# Altium schematic symbol library ToradexMainBoard-V0I1.SCHLIB: 303 symbols (part 13 of 14)
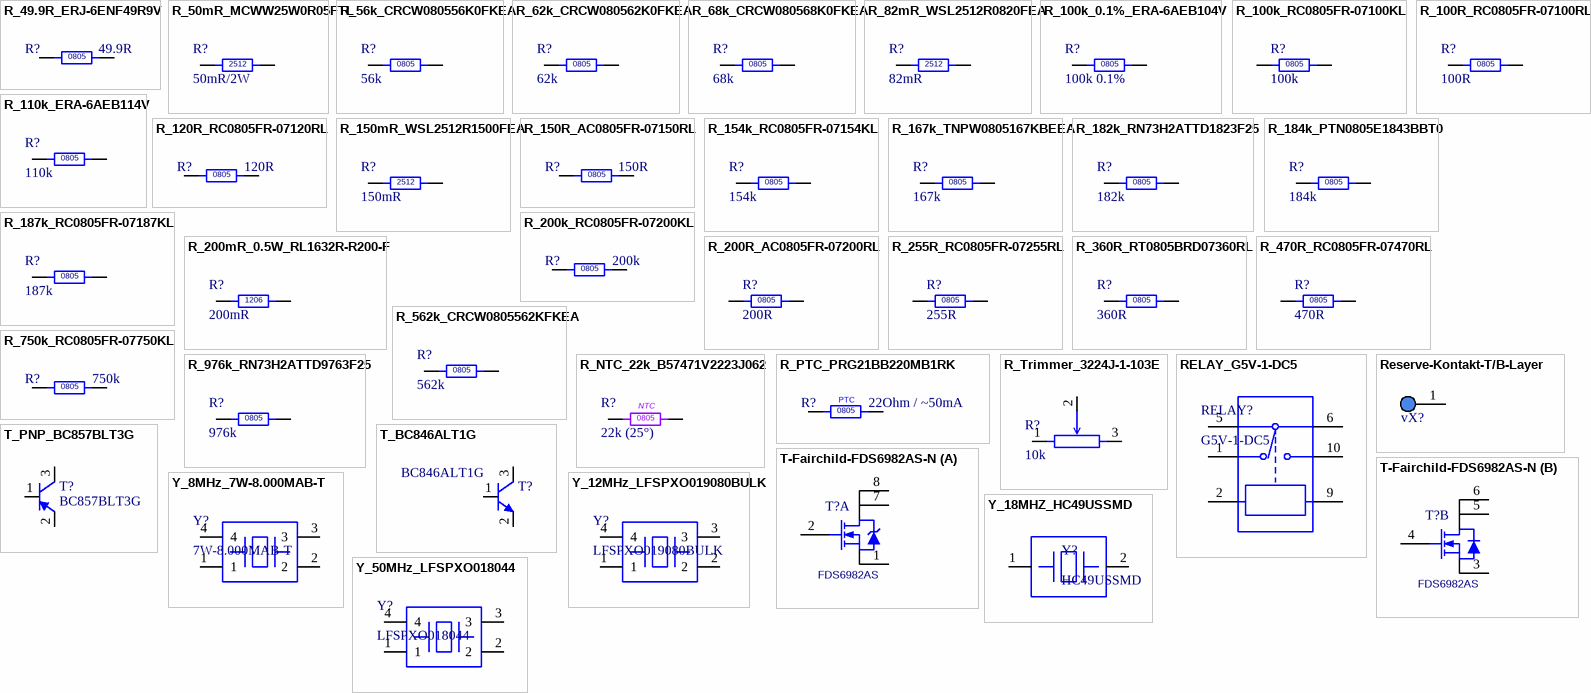
[diagram p27: symbols R_49.9R_ERJ-6ENF49R9V to Y_50MHz_LFSPXO018044]

## R_68k_CRCW080568K0FKEA
designator R?, comment 68k
VISHAY - CRCW080568K0FKEA - SMD Chip Resistor, 0805 [2012 Metric], 68 kohm, CRCW e3 Series, 150 V, Thick Film, 125 mW; Resistance: 68kR; Tolerance: 1%; Temperature Coefficient: 100ppm/°C; Power Rating: 125mW; Voltage Rating: 150V; Supplier 1: Farnell; Manufacturer: Vishay; Manufacturer Part Number: CRCW080568K0FKEA; RoHS: Yes; Category: Chip SMD Resistors; Stock 1: 12029; Pricing 1: 10=0,06040, 100=0,02760, 500=0,01940, 1000=0,01110, 2500=0,01050 (EUR); Case/Package: 0805; Number of Pins: 2; Case Code (Imperial): 0805; Case Code (Metric): 2012; Contact Plating: Tin; Weight: 0.000194oz; Size Code: 0805; Min Operating Temperature: -55°C; Max Operating Temperature: 155°C; Packaging: Tape and Reel; Resistor Type: Thick Film; Termination: SMD/SMT; Series: CRCW; Package Quantity: 10; Max Power Dissipation: 125mW; Number of Terminations: 2; Voltage Rating (DC): 150V; Features: Automotive AEC-Q200; Construction: Rectangular; Resistance Tolerance: 1%; Technology: THICK FILM; Length: 2mm; Width: 1.25mm; Height: 0.45mm; Depth: 1.25mm; Radiation Hardening: No; RoHS Compliant: Yes; Lead Free: Lead Free; Military Standard: Not; REACH SVHC: Unknown; ComponentLink1URL: https://datasheet.ciiva.com/11809/0900766b80d98b26-11809168.pdf?src-supplier=RSComponents; ComponentLink1Description: https://datasheet.ciiva.com/11809/0900766b80d98b26-11809168.pdf?src-supplier=RSComponents; ComponentLink2URL: https://datasheet.ciiva.com/2495/dcrcwe3-2495650.pdf?src-supplier=Digi-Key; ComponentLink2Description: https://datasheet.ciiva.com/2495/dcrcwe3-2495650.pdf?src-supplier=Digi-Key; ComponentLink3URL: https://datasheet.ciiva.com/2495/dcrcwe3-2495651.pdf?src-supplier=Digi-Key; ComponentLink3Description: https://datasheet.ciiva.com/2495/dcrcwe3-2495651.pdf?src-supplier=Digi-Key; ComponentLink4URL: https://datasheet.ciiva.com/2495/dcrcwe3-2495652.pdf?src-supplier=Digi-Key; ComponentLink4Description: https://datasheet.ciiva.com/2495/dcrcwe3-2495652.pdf?src-supplier=Digi-Key; ComponentLink5URL: https://datasheet.ciiva.com/7673/1697337-7673014.pdf?src-supplier=Element14; ComponentLink5Description: https://datasheet.ciiva.com/7673/1697337-7673014.pdf?src-supplier=Element14; ComponentLink6URL: https://datasheet.ciiva.com/17175/dcrcwe3-17175158.pdf?src-supplier=Avnet+Europe; ComponentLink6Description: https://datasheet.ciiva.com/17175/dcrcwe3-17175158.pdf?src-supplier=Avnet+Europe; ComponentLink7URL: https://datasheet.ciiva.com/16759/70201119-16759687.pdf?src-supplier=Allied+Electronics; ComponentLink7Description: https://datasheet.ciiva.com/16759/70201119-16759687.pdf?src-supplier=Allied+Electronics; ComponentLink8URL: https://datasheet.ciiva.com/7673/1697337-7673160.pdf?src-supplier=Element14; ComponentLink8Description: https://datasheet.ciiva.com/7673/1697337-7673160.pdf?src-supplier=Element14; ComponentLink9URL: https://datasheet.ciiva.com/8897/dcrcwe3-8897081.pdf?src-supplier=Avnet; ComponentLink9Description: https://datasheet.ciiva.com/8897/dcrcwe3-8897081.pdf?src-supplier=Avnet; ComponentLink10URL: https://datasheet.ciiva.com/26314/fld-crcw-e3-data-en-26314588.pdf?src-supplier=Distrelec; ComponentLink10Description: https://datasheet.ciiva.com/26314/fld-crcw-e3-data-en-26314588.pdf?src-supplier=Distrelec; Supplier Part Number 1: 1469953
footprint R0805
pins: 1, 2

## R_82mR_WSL2512R0820FEA
designator R?, comment 82mR
Res Metal Strip 2512 0.082 Ohm 1% 1W 75ppm/C Molded SMD SMD Embossed Plastic T/R; Manufacturer: Vishay Dale; Manufacturer Part Number: WSL2512R0820FEA; Temperature Coefficient: 75ppm/°C; Supplier 1: Mouser; RoHS: Yes; Category: Chip SMD Resistors; Stock 1: 4597; Case/Package: 2512; Contact Plating: Tin,Matte; Case Code (Imperial): 2512; Case Code (Metric): 6432; Min Operating Temperature: -65°C; Max Operating Temperature: 170°C; Resistor Type: Metal Strip; Resistance: 82mR; Power Rating: 1W; Tolerance: 1%; Termination: SMD/SMT; Packaging: Tape and Reel; Package Quantity: 2000; Length: 6.4mm; Width: 3.2mm; Height: 0.635mm; Radiation Hardening: No; Lead Free: Lead Free; ComponentLink1URL: https://datasheet.ciiva.com/5469/wsl-101914-5469528.pdf?src-supplier=Mouser; ComponentLink1Description: https://datasheet.ciiva.com/5469/wsl-101914-5469528.pdf?src-supplier=Mouser; ComponentLink2URL: https://datasheet.ciiva.com/17173/wsl-17173914.pdf?src-supplier=Avnet+Europe; ComponentLink2Description: https://datasheet.ciiva.com/17173/wsl-17173914.pdf?src-supplier=Avnet+Europe; ComponentLink3URL: https://datasheet.ciiva.com/8987/wsl-8987452.pdf?src-supplier=Avnet; ComponentLink3Description: https://datasheet.ciiva.com/8987/wsl-8987452.pdf?src-supplier=Avnet; Supplier Part Number 1: 71-WSL2512R0820FEA
footprint R2512
pins: 1, 2

## R_100k_0.1%_ERA-6AEB104V
designator R?, comment 100k 0.1%
Res Thin Film 0805 100K Ohm 0.1% 1/8W 25ppm/C Molded SMD SMD Punched Carrier T/R; Manufacturer: Panasonic; Manufacturer Part Number: ERA-6AEB104V; Resistance: 100kR; Temperature Coefficient: 25ppm/°C; Power Rating: 125mW; Voltage Rating: 100V; Supplier 1: Farnell; RoHS: Yes; Category: Chip SMD Resistors; Stock 1: 32758; Pricing 1: 10=0,32100, 100=0,11400, 500=0,09080, 1000=0,03820, 2500=0,03500, 5000=0,03280, 25000=0,03060 (EUR); Mount: Surface Mount; Case/Package: 0805; Number of Pins: 2; Contact Plating: Tin; Case Code (Imperial): 0805; Case Code (Metric): 2012; Min Operating Temperature: -55°C; Max Operating Temperature: 155°C; Tolerance: 0.1%; Resistor Type: Thin Film; Packaging: Tape and Reel; Package Quantity: 1; Number of Terminations: 2; Termination: Solder; Max Power Dissipation: 125mW; Voltage Rating (DC): 100V; Features: Automotive AEC-Q200; Length: 2mm; Width: 1.25mm; Height: 0.5mm; Depth: 1.25mm; Radiation Hardening: No; REACH SVHC: No SVHC; Military Standard: Not; Lead Free: Lead Free; ComponentLink1URL: https://datasheet.ciiva.com/11811/0900766b80beefcc-11811258.pdf?src-supplier=RSComponents; ComponentLink1Description: https://datasheet.ciiva.com/11811/0900766b80beefcc-11811258.pdf?src-supplier=RSComponents; ComponentLink2URL: https://datasheet.ciiva.com/26335/453651-da-01-en-widerstand-0805-era-26335725.pdf?src-supplier=Conrad; ComponentLink2Description: https://datasheet.ciiva.com/26335/453651-da-01-en-widerstand-0805-era-26335725.pdf?src-supplier=Conrad; ComponentLink3URL: https://datasheet.ciiva.com/48425/era-eng-tds-48425749.pdf?src-supplier=Distrelec; ComponentLink3Description: https://datasheet.ciiva.com/48425/era-eng-tds-48425749.pdf?src-supplier=Distrelec; ComponentLink4URL: https://datasheet.ciiva.com/46438/485442-46438215.pdf?src-supplier=Element14; ComponentLink4Description: https://datasheet.ciiva.com/46438/485442-46438215.pdf?src-supplier=Element14; ComponentLink5URL: https://datasheet.ciiva.com/46438/485442-46438216.pdf?src-supplier=Element14; ComponentLink5Description: https://datasheet.ciiva.com/46438/485442-46438216.pdf?src-supplier=Element14; ComponentLink6URL: https://datasheet.ciiva.com/22758/485442-22758153.pdf?src-supplier=Farnell; ComponentLink6Description: https://datasheet.ciiva.com/22758/485442-22758153.pdf?src-supplier=Farnell; ComponentLink7URL: https://datasheet.ciiva.com/46438/485442-46438217.pdf?src-supplier=Element14; ComponentLink7Description: https://datasheet.ciiva.com/46438/485442-46438217.pdf?src-supplier=Element14; ComponentLink8URL: https://datasheet.ciiva.com/17208/aoa0000ce26-17208122.pdf?src-supplier=Avnet+Europe; ComponentLink8Description: https://datasheet.ciiva.com/17208/aoa0000ce26-17208122.pdf?src-supplier=Avnet+Europe; ComponentLink9URL: https://datasheet.ciiva.com/16768/70068849-16768795.pdf?src-supplier=Allied+Electronics; ComponentLink9Description: https://datasheet.ciiva.com/16768/70068849-16768795.pdf?src-supplier=Allied+Electronics; ComponentLink10URL: https://datasheet.ciiva.com/22758/485442-22758155.pdf?src-supplier=Farnell; ComponentLink10Description: https://datasheet.ciiva.com/22758/485442-22758155.pdf?src-supplier=Farnell; ComponentLink11URL: https://datasheet.ciiva.com/16763/70068849-16763132.pdf?src-supplier=Allied+Electronics; ComponentLink11Description: https://datasheet.ciiva.com/16763/70068849-16763132.pdf?src-supplier=Allied+Electronics; ComponentLink12URL: https://datasheet.ciiva.com/48529/era-eng-tds-48529996.pdf?src-supplier=Distrelec; ComponentLink12Description: https://datasheet.ciiva.com/48529/era-eng-tds-48529996.pdf?src-supplier=Distrelec; ComponentLink13URL: https://datasheet.ciiva.com/16396/aoa0000ce26-16396829.pdf?src-supplier=Future+Electronics; ComponentLink13Description: https://datasheet.ciiva.com/16396/aoa0000ce26-16396829.pdf?src-supplier=Future+Electronics; ComponentLink14URL: https://datasheet.ciiva.com/9186/aoa0000ce26-9186703.pdf?src-supplier=Avnet; ComponentLink14Description: https://datasheet.ciiva.com/9186/aoa0000ce26-9186703.pdf?src-supplier=Avnet; ComponentLink15URL: https://datasheet.ciiva.com/43457/485442-43457791.pdf?src-supplier=Farnell; ComponentLink15Description: https://datasheet.ciiva.com/43457/485442-43457791.pdf?src-supplier=Farnell; Supplier Part Number 1: 1577686
footprint R0805
pins: 1, 2

## R_100k_RC0805FR-07100KL
designator R?, comment 100k
RES SMD 100K OHM 1% 1/8W 0805; Manufacturer Part Number: RC0805FR-07100KL; Manufacturer: Yageo; Resistance: 100kR; Temperature Coefficient: 100ppm/°C; Power Rating: 125mW; Voltage Rating (DC): 150V; PCBChecked: initials after Checked; Supplier 1: Digi-Key; RoHS: Yes; Category: Chip SMD Resistors; Case/Package: 0805; Number of Pins: 2; Case Code (Metric): 2012; Case Code (Imperial): 0805; Min Operating Temperature: -55°C; Max Operating Temperature: 155°C; Tolerance: 1%; Packaging: Tape and Reel; Composition: Thick Film; Voltage Rating: 150V; Package Quantity: 1; Number of Terminations: 2; Termination: SMD/SMT; Military Standard: Not; Max Power Dissipation: 125mW; Features: Moisture Resistant; Length: 2mm; Height: 0.024inch; Width: 0.049inch; Depth: 1.25mm; Lead Pitch: 0.4mm; REACH SVHC: Unknown; Lead Free: Lead Free; ComponentLink1URL: https://datasheet.ciiva.com/11808/0900766b8106beab-11808858.pdf?src-supplier=RSComponents; ComponentLink1Description: https://datasheet.ciiva.com/11808/0900766b8106beab-11808858.pdf?src-supplier=RSComponents; ComponentLink2URL: https://datasheet.ciiva.com/2457/pyu-r-int-thick-7-2457017.pdf?src-supplier=Digi-Key; ComponentLink2Description: https://datasheet.ciiva.com/2457/pyu-r-int-thick-7-2457017.pdf?src-supplier=Digi-Key; ComponentLink3URL: https://datasheet.ciiva.com/12667/rc0805-12667001.pdf?src-supplier=Mouser; ComponentLink3Description: https://datasheet.ciiva.com/12667/rc0805-12667001.pdf?src-supplier=Mouser; ComponentLink4URL: https://datasheet.ciiva.com/2457/pyu-r-int-thick-7-2457018.pdf?src-supplier=Digi-Key; ComponentLink4Description: https://datasheet.ciiva.com/2457/pyu-r-int-thick-7-2457018.pdf?src-supplier=Digi-Key; ComponentLink5URL: https://datasheet.ciiva.com/16747/rc0805-16747226.pdf?src-supplier=Future+Electronics; ComponentLink5Description: https://datasheet.ciiva.com/16747/rc0805-16747226.pdf?src-supplier=Future+Electronics; ComponentLink6URL: https://datasheet.ciiva.com/2457/pyu-r-int-thick-7-2457019.pdf?src-supplier=Digi-Key; ComponentLink6Description: https://datasheet.ciiva.com/2457/pyu-r-int-thick-7-2457019.pdf?src-supplier=Digi-Key; ComponentLink7URL: https://datasheet.ciiva.com/7660/38627-7660796.pdf?src-supplier=Element14; ComponentLink7Description: https://datasheet.ciiva.com/7660/38627-7660796.pdf?src-supplier=Element14; ComponentLink8URL: https://datasheet.ciiva.com/7941/1697719-7941676.pdf?src-supplier=Element14; ComponentLink8Description: https://datasheet.ciiva.com/7941/1697719-7941676.pdf?src-supplier=Element14; ComponentLink9URL: https://datasheet.ciiva.com/7941/1686128-7941677.pdf?src-supplier=Element14; ComponentLink9Description: https://datasheet.ciiva.com/7941/1686128-7941677.pdf?src-supplier=Element14; ComponentLink10URL: https://datasheet.ciiva.com/7941/1697719-7941678.pdf?src-supplier=Element14; ComponentLink10Description: https://datasheet.ciiva.com/7941/1697719-7941678.pdf?src-supplier=Element14; ComponentLink11URL: https://datasheet.ciiva.com/22747/444164-22747534.pdf?src-supplier=Element14; ComponentLink11Description: https://datasheet.ciiva.com/22747/444164-22747534.pdf?src-supplier=Element14; Supplier Part Number 1: 311-100KCRCT-ND; Stock 1: 6543127; IPC7352C: done; SCHChecked: Initials after checked
footprint R0805 (Chip Resistor, 2-Leads, Body 2,00x1,25mm, IPC Medium Density)
pins: 1, 2

## R_100R_RC0805FR-07100RL
designator R?, comment 100R
Res Thick Film 0805 100 Ohm 1% 0.125W(1/8W) ±100ppm/C Epoxy SMD T/R; Manufacturer: Yageo; Manufacturer Part Number: RC0805FR-07100RL; Temperature Coefficient: 100ppm/°C; Max Power Dissipation: 125mW; Voltage Rating: 150V; Application(s): HIGH RELIABILITY; Supplier 1: Farnell; RoHS: Yes; Category: Chip SMD Resistors; Stock 1: 355000; Pricing 1: 5000=0,00660, 25000=0,00480 (EUR); Case/Package: 0805; Number of Pins: 2; Case Code (Imperial): 0805; Case Code (Metric): 2012; Weight: 0.000917oz; Min Operating Temperature: -55°C; Max Operating Temperature: 155°C; Resistance: 100R; Packaging: Cut Tape; Tolerance: 1%; Resistor Type: Thick Film; Number of Terminations: 2; Series: RC; Power Rating: 125mW; Termination: SMD/SMT; Voltage Rating (DC): 150V; Package Quantity: 5000; Features: Moisture Resistant; Technology: THICK FILM; Type: General Purpose; Length: 2mm; Width: 1.25mm; Height: 0.5mm; Depth: 1.25mm; Lead Pitch: 0.4mm; RoHS Compliant: Yes; Lead Free: Lead Free; REACH SVHC: Unknown; Military Standard: Not; ComponentLink1URL: https://datasheet.ciiva.com/7941/1697719-7941680.pdf?src-supplier=Element14; ComponentLink1Description: https://datasheet.ciiva.com/7941/1697719-7941680.pdf?src-supplier=Element14; ComponentLink2URL: https://datasheet.ciiva.com/11808/0900766b8106beab-11808877.pdf?src-supplier=RSComponents; ComponentLink2Description: https://datasheet.ciiva.com/11808/0900766b8106beab-11808877.pdf?src-supplier=RSComponents; ComponentLink3URL: https://datasheet.ciiva.com/17082/rc0805-17082697.pdf?src-supplier=Future+Electronics; ComponentLink3Description: https://datasheet.ciiva.com/17082/rc0805-17082697.pdf?src-supplier=Future+Electronics; ComponentLink4URL: https://datasheet.ciiva.com/46447/444164-46447562.pdf?src-supplier=Element14; ComponentLink4Description: https://datasheet.ciiva.com/46447/444164-46447562.pdf?src-supplier=Element14; ComponentLink5URL: https://datasheet.ciiva.com/2456/pyu-r-int-thick-7-2456987.pdf?src-supplier=Digi-Key; ComponentLink5Description: https://datasheet.ciiva.com/2456/pyu-r-int-thick-7-2456987.pdf?src-supplier=Digi-Key; ComponentLink6URL: https://datasheet.ciiva.com/2456/pyu-r-int-thick-7-2456988.pdf?src-supplier=Digi-Key; ComponentLink6Description: https://datasheet.ciiva.com/2456/pyu-r-int-thick-7-2456988.pdf?src-supplier=Digi-Key; ComponentLink7URL: https://datasheet.ciiva.com/2456/pyu-r-int-thick-7-2456989.pdf?src-supplier=Digi-Key; ComponentLink7Description: https://datasheet.ciiva.com/2456/pyu-r-int-thick-7-2456989.pdf?src-supplier=Digi-Key; ComponentLink8URL: https://datasheet.ciiva.com/7660/38627-7660797.pdf?src-supplier=Element14; ComponentLink8Description: https://datasheet.ciiva.com/7660/38627-7660797.pdf?src-supplier=Element14; ComponentLink9URL: https://datasheet.ciiva.com/7941/1686128-7941679.pdf?src-supplier=Element14; ComponentLink9Description: https://datasheet.ciiva.com/7941/1686128-7941679.pdf?src-supplier=Element14; ComponentLink10URL: https://datasheet.ciiva.com/22747/444164-22747535.pdf?src-supplier=Element14; ComponentLink10Description: https://datasheet.ciiva.com/22747/444164-22747535.pdf?src-supplier=Element14; Supplier Part Number 1: 2421934
footprint R0805
pins: 1, 2

## R_110k_ERA-6AEB114V
designator R?, comment 110k
Res Thin Film 0805 110K Ohm 0.1% 1/8W ±25ppm/°C Molded SMD SMD Punched Carrier T/R; Manufacturer: Panasonic; Manufacturer Part Number: ERA-6AEB114V; Resistance: 110kR; Power Rating: 125mW; Voltage Rating: 100V; Supplier 1: Farnell; RoHS: Yes; Category: Chip SMD Resistors; Stock 1: 9190; Pricing 1: 10=0,30400, 100=0,10900, 500=0,07270, 1000=0,03630, 2500=0,03320, 5000=0,03180, 25000=0,03040 (EUR); Mount: Surface Mount; Case/Package: 0805; Number of Pins: 2; Case Code (Metric): 2012; Case Code (Imperial): 0805; Contact Plating: Tin; Weight: 0.000194oz; Min Operating Temperature: -55°C; Max Operating Temperature: 155°C; Tolerance: 0.1%; Packaging: Tape and Reel; Temperature Coefficient: 25ppm/°C; Resistor Type: Thin Film; Termination: SMD/SMT; Voltage Rating (DC): 100V; Number of Terminations: 2; Max Power Dissipation: 125mW; Length: 2mm; Width: 1.25mm; Height: 0.5mm; Depth: 1.25mm; Radiation Hardening: No; Lead Free: Lead Free; REACH SVHC: No SVHC; Military Standard: Not; ComponentLink1URL: https://datasheet.ciiva.com/26335/453664-da-01-en-widerstand-0805-era-26335726.pdf?src-supplier=Conrad; ComponentLink1Description: https://datasheet.ciiva.com/26335/453664-da-01-en-widerstand-0805-era-26335726.pdf?src-supplier=Conrad; ComponentLink2URL: https://datasheet.ciiva.com/7795/485442-7795110.pdf?src-supplier=Element14; ComponentLink2Description: https://datasheet.ciiva.com/7795/485442-7795110.pdf?src-supplier=Element14; ComponentLink3URL: https://datasheet.ciiva.com/6075/485442-6075015.pdf?src-supplier=Farnell; ComponentLink3Description: https://datasheet.ciiva.com/6075/485442-6075015.pdf?src-supplier=Farnell; ComponentLink4URL: https://datasheet.ciiva.com/7795/485442-7795111.pdf?src-supplier=Element14; ComponentLink4Description: https://datasheet.ciiva.com/7795/485442-7795111.pdf?src-supplier=Element14; ComponentLink5URL: https://datasheet.ciiva.com/17207/aoa0000ce26-17207911.pdf?src-supplier=Avnet+Europe; ComponentLink5Description: https://datasheet.ciiva.com/17207/aoa0000ce26-17207911.pdf?src-supplier=Avnet+Europe; ComponentLink6URL: https://datasheet.ciiva.com/48529/era-eng-tds-48529992.pdf?src-supplier=Distrelec; ComponentLink6Description: https://datasheet.ciiva.com/48529/era-eng-tds-48529992.pdf?src-supplier=Distrelec; ComponentLink7URL: https://datasheet.ciiva.com/48425/era-eng-tds-48425753.pdf?src-supplier=Distrelec; ComponentLink7Description: https://datasheet.ciiva.com/48425/era-eng-tds-48425753.pdf?src-supplier=Distrelec; ComponentLink8URL: https://datasheet.ciiva.com/30174/54aoa0000ce26-30174171.pdf?src-supplier=Onlinecomponents.com; ComponentLink8Description: https://datasheet.ciiva.com/30174/54aoa0000ce26-30174171.pdf?src-supplier=Onlinecomponents.com; ComponentLink9URL: https://datasheet.ciiva.com/6075/485442-6075021.pdf?src-supplier=Farnell; ComponentLink9Description: https://datasheet.ciiva.com/6075/485442-6075021.pdf?src-supplier=Farnell; Supplier Part Number 1: 1670254
footprint R0805
pins: 1, 2

## R_120R_RC0805FR-07120RL
designator R?, comment 120R
RES SMD 120 OHM 1% 1/8W 0805; Manufacturer Part Number: RC0805FR-07120RL; Manufacturer: Yageo; Temperature Coefficient: 100ppm/°C; Power Rating: 125mW; Voltage Rating: 150V; PCBChecked: initials after Checked; Supplier 1: Digi-Key; RoHS: Yes; Category: Chip SMD Resistors; Case/Package: 0805; Case Code (Metric): 2012; Case Code (Imperial): 0805; Min Operating Temperature: -55°C; Max Operating Temperature: 155°C; Resistance: 120R; Tolerance: 1%; Packaging: Tape and Reel; Composition: Thick Film; Package Quantity: 1; Number of Terminations: 2; Termination: SMD/SMT; Military Standard: Not; Max Power Dissipation: 125mW; Features: Moisture Resistant; Length: 2mm; Height: 0.5mm; Width: 0.049inch; Depth: 1.25mm; REACH SVHC: Unknown; Lead Free: Lead Free; ComponentLink1URL: https://datasheet.ciiva.com/11819/0900766b8106beab-11819786.pdf?src-supplier=RSComponents; ComponentLink1Description: https://datasheet.ciiva.com/11819/0900766b8106beab-11819786.pdf?src-supplier=RSComponents; ComponentLink2URL: https://datasheet.ciiva.com/2491/pyu-r-int-thick-7-2491586.pdf?src-supplier=Digi-Key; ComponentLink2Description: https://datasheet.ciiva.com/2491/pyu-r-int-thick-7-2491586.pdf?src-supplier=Digi-Key; ComponentLink3URL: https://datasheet.ciiva.com/7941/444164-7941691.pdf?src-supplier=Element14; ComponentLink3Description: https://datasheet.ciiva.com/7941/444164-7941691.pdf?src-supplier=Element14; ComponentLink4URL: https://datasheet.ciiva.com/16964/rc0805-16964606.pdf?src-supplier=Future+Electronics; ComponentLink4Description: https://datasheet.ciiva.com/16964/rc0805-16964606.pdf?src-supplier=Future+Electronics; ComponentLink5URL: https://datasheet.ciiva.com/2491/pyu-r-int-thick-7-2491585.pdf?src-supplier=Digi-Key; ComponentLink5Description: https://datasheet.ciiva.com/2491/pyu-r-int-thick-7-2491585.pdf?src-supplier=Digi-Key; ComponentLink6URL: https://datasheet.ciiva.com/2491/pyu-r-int-thick-7-2491587.pdf?src-supplier=Digi-Key; ComponentLink6Description: https://datasheet.ciiva.com/2491/pyu-r-int-thick-7-2491587.pdf?src-supplier=Digi-Key; ComponentLink7URL: https://datasheet.ciiva.com/12558/rc0805-257173-12558661.pdf?src-supplier=Mouser; ComponentLink7Description: https://datasheet.ciiva.com/12558/rc0805-257173-12558661.pdf?src-supplier=Mouser; ComponentLink8URL: https://datasheet.ciiva.com/7941/444164-7941692.pdf?src-supplier=Element14; ComponentLink8Description: https://datasheet.ciiva.com/7941/444164-7941692.pdf?src-supplier=Element14; Supplier Part Number 1: 311-120CRCT-ND; Stock 1: 633913; IPC7352C: done; SCHChecked: Initials after checked
footprint R0805 (Chip Resistor, 2-Leads, Body 2,00x1,25mm, IPC Medium Density)
pins: 1, 2

## R_150mR_WSL2512R1500FEA
designator R?, comment 150mR
Res Metal Strip 2512 0.15 Ohm 1% 1W 75ppm/C Molded SMD SMD Embossed Plastic T/R; Manufacturer: Vishay Dale; Manufacturer Part Number: WSL2512R1500FEA; Temperature Coefficient: 75ppm/°C; Voltage Rating: 380mV; Supplier 1: Farnell; RoHS: Yes; Category: Chip SMD Resistors; Stock 1: 5415; Pricing 1: 5=0,74200, 50=0,33600, 250=0,32300, 500=0,30900, 1000=0,25300, 2000=0,23100, 10000=0,16300 (EUR); Mount: Surface Mount; Case/Package: 2512; Case Code (Imperial): 2512; Case Code (Metric): 6432; Contact Plating: Tin,Matte; Weight: 0.002243oz; Min Operating Temperature: -65°C; Max Operating Temperature: 170°C; Resistance: 150mR; Tolerance: 1%; Packaging: Tape and Reel; Resistor Type: Metal Strip; Power Rating: 1W; Package Quantity: 2000; Termination: SMD/SMT; Length: 6.35mm; Width: 3.2mm; Height: 0.635mm; Depth: 3.18mm; Radiation Hardening: No; Lead Free: Lead Free; Military Standard: Not; REACH SVHC: No SVHC; ComponentLink1URL: https://datasheet.ciiva.com/11821/0900766b80d81e3e-11821843.pdf?src-supplier=RSComponents; ComponentLink1Description: https://datasheet.ciiva.com/11821/0900766b80d81e3e-11821843.pdf?src-supplier=RSComponents; ComponentLink2URL: https://datasheet.ciiva.com/26924/wsl2512r1500fea-26924715.pdf?src-supplier=IIIC; ComponentLink2Description: https://datasheet.ciiva.com/26924/wsl2512r1500fea-26924715.pdf?src-supplier=IIIC; ComponentLink3URL: https://datasheet.ciiva.com/8968/wsl-8968549.pdf?src-supplier=Avnet; ComponentLink3Description: https://datasheet.ciiva.com/8968/wsl-8968549.pdf?src-supplier=Avnet; ComponentLink4URL: https://datasheet.ciiva.com/16215/wsl-16215257.pdf?src-supplier=Future+Electronics; ComponentLink4Description: https://datasheet.ciiva.com/16215/wsl-16215257.pdf?src-supplier=Future+Electronics; ComponentLink5URL: https://datasheet.ciiva.com/7702/442550-7702479.pdf?src-supplier=Element14; ComponentLink5Description: https://datasheet.ciiva.com/7702/442550-7702479.pdf?src-supplier=Element14; Supplier Part Number 1: 1107407
footprint R2512
pins: 1, 2

## R_150R_AC0805FR-07150RL
designator R?, comment 150R
Thick Film Resistors - SMD 1/8W 150ohm 1% AEC-Q200; Manufacturer Part Number: AC0805FR-07150RL; Manufacturer: Yageo; Voltage Rating: 150V; Max Power Dissipation: 125mW; Temperature Coefficient: 100ppm/°C; Supplier 1: Digi-Key; RoHS: Yes; Category: Chip SMD Resistors; Case/Package: 0805; Case Code (Imperial): 0805; Case Code (Metric): 2012; Min Operating Temperature: -55°C; Max Operating Temperature: 155°C; Packaging: Tape and Reel; Resistance: 150R; Tolerance: 1%; Composition: Thick Film; Number of Terminations: 2; Termination: SMD/SMT; Features: Moisture Resistant,Automotive AEC-Q200; Power Rating: 125mW; Length: 0.079inch; Height: 0.024inch; Width: 0.049inch; ComponentLink1URL: http://www.mouser.com/ds/2/447/yageodocoutput-1111992.pdf?src-supplier=Mouser; ComponentLink1Description: http://www.mouser.com/ds/2/447/yageodocoutput-1111992.pdf?src-supplier=Mouser; ComponentLink2URL: http://www.yageo.com/NewPortal/yageodocoutput?fileName=/pdf/R-Chip/PYu-AC_51_RoHS_L_6.pdf&src-supplier=Digi-Key; ComponentLink2Description: http://www.yageo.com/NewPortal/yageodocoutput?fileName=/pdf/R-Chip/PYu-AC_51_RoHS_L_6.pdf&src-supplier=Digi-Key; Supplier Part Number 1: YAG3694CT-ND; Stock 1: 36631
footprint R0805 (Chip Resistor, 2-Leads, Body 2,00x1,25mm, IPC Medium Density)
pins: 1, 2

## R_154k_RC0805FR-07154KL
designator R?, comment 154k
Res Thick Film 0805 154K Ohm 1% 1/8W 100ppm/C SMD Paper T/R; Manufacturer: Yageo; Manufacturer Part Number: RC0805FR-07154KL; Resistance: 154kR; Temperature Coefficient: 100ppm/°C; Power Rating: 125mW; Voltage Rating: 150V; Supplier 1: Digi-Key; RoHS: Yes; Category: Chip SMD Resistors; Stock 1: 51481; Pricing 1: 1=0,10000, 10=0,04000, 100=0,01630, 1000=0,00731, 2500=0,00635 (USD); Case/Package: 0805; Contact Plating: Tin,Matte,Lead; Case Code (Metric): 2012; Case Code (Imperial): 0805; Min Operating Temperature: -55°C; Max Operating Temperature: 155°C; Tolerance: 1%; Composition: Thick Film; Package Quantity: 1; Packaging: Tape and Reel; Number of Terminations: 2; Termination: SMD/SMT; Military Standard: Not; Max Power Dissipation: 125mW; Voltage Rating (DC): 150V; Features: Moisture Resistant; Length: 2mm; Height: 0.024inch; Width: 0.049inch; Depth: 1.25mm; Radiation Hardening: No; Lead Free: Lead Free; ComponentLink1URL: https://datasheet.ciiva.com/2457/pyu-r-int-thick-7-2457461.pdf?src-supplier=Digi-Key; ComponentLink1Description: https://datasheet.ciiva.com/2457/pyu-r-int-thick-7-2457461.pdf?src-supplier=Digi-Key; ComponentLink2URL: https://datasheet.ciiva.com/12576/rc0805-257173-12576181.pdf?src-supplier=Mouser; ComponentLink2Description: https://datasheet.ciiva.com/12576/rc0805-257173-12576181.pdf?src-supplier=Mouser; ComponentLink3URL: https://datasheet.ciiva.com/2457/pyu-r-int-thick-7-2457462.pdf?src-supplier=Digi-Key; ComponentLink3Description: https://datasheet.ciiva.com/2457/pyu-r-int-thick-7-2457462.pdf?src-supplier=Digi-Key; ComponentLink4URL: https://datasheet.ciiva.com/2457/pyu-r-int-thick-7-2457463.pdf?src-supplier=Digi-Key; ComponentLink4Description: https://datasheet.ciiva.com/2457/pyu-r-int-thick-7-2457463.pdf?src-supplier=Digi-Key; Supplier Part Number 1: 311-154KCRCT-ND
footprint R0805
pins: 1, 2

## R_167k_TNPW0805167KBEEA
designator R?, comment 167k
Thin Film Resistors - SMD 167Kohms .1% 25ppm; Manufacturer: Vishay; Manufacturer Part Number: TNPW0805167KBEEA; Resistance: 167kR; Tolerance: 0.1%; Power Rating: 125mW; Voltage Rating: 150V; Supplier 1: Mouser; RoHS: Yes; Category: Uncategorized; Case/Package: 0805; Case Code (Imperial): 0805; Case Code (Metric): 2012; Min Operating Temperature: -55°C; Max Operating Temperature: 155°C; Packaging: Tape and Reel; Package Quantity: 5000; Resistor Type: Thin Film; Termination: SMD/SMT; Length: 2mm; Width: 1.25mm; Height: 0.45mm; ComponentLink1URL: http://www.vishay.com/doc?28758?src-supplier=Mouser; ComponentLink1Description: http://www.vishay.com/doc?28758?src-supplier=Mouser; Supplier Part Number 1: 71-TNPW0805167KBEEA
footprint R0805
pins: 1, 2

## R_182k_RN73H2ATTD1823F25
designator R?, comment 182k
Res 182K Ohm 1% 1/8W 0805; Manufacturer: KOA Speer; Manufacturer Part Number: RN73H2ATTD1823F25; Supplier 1: Digi-Key; Pricing 1: 5000=0,06662 (USD); Supplier Part Number 1: 2019-RN73H2ATTD1823F25TR-ND
footprint R0805
pins: 1, 2
text: 0805

## R_184k_PTN0805E1843BBT0
designator R?, comment 184k
Thin Film Resistors - SMD 25ppm 184Kohms .1%; Manufacturer: Vishay Dale; Manufacturer Part Number: PTN0805E1843BBT0; Resistance: 184kR; Power Rating: 200mW; Tolerance: 0.1%; Voltage Rating: 100V; Temperature Coefficient: 25ppm/°C; Supplier 1: Mouser; RoHS: Yes; Category: Chip SMD Resistors; Case/Package: 0805; Case Code (Imperial): 0805; Case Code (Metric): 2012; Contact Plating: Tin,Lead; Min Operating Temperature: -55°C; Max Operating Temperature: 155°C; Termination: SMD/SMT; Packaging: Tape and Reel; Resistor Type: Thin Film; Operating Supply Voltage: 100V; Length: 0.08inch; Width: 0.05inch; Height: 0.033inch; Radiation Hardening: No; Lead Free: Lead Free; ComponentLink1URL: https://datasheet.ciiva.com/8962/ptn-8962989.pdf?src-supplier=Avnet; ComponentLink1Description: https://datasheet.ciiva.com/8962/ptn-8962989.pdf?src-supplier=Avnet; Supplier Part Number 1: 71-PTN0805E1843BBT0
footprint R0805
pins: 1, 2

## R_187k_RC0805FR-07187KL
designator R?, comment 187k
Resistor;Resistance:187Kohm;Resistance Tolerance:± 1%;Resistor Element Material:Thick Film;Resistor Case Style:0805; Manufacturer: Yageo; Manufacturer Part Number: RC0805FR-07187KL; Resistance: 187kR; Temperature Coefficient: 100ppm/°C; Power Rating: 125mW; Voltage Rating: 150V; Supplier 1: Digi-Key; RoHS: Yes; Category: Chip SMD Resistors; Stock 1: 1305; Pricing 1: 1=0,10000, 10=0,04000, 100=0,01630, 1000=0,00731, 2500=0,00635 (USD); Case/Package: 0805; Contact Plating: Tin,Matte,Lead; Case Code (Metric): 2012; Case Code (Imperial): 0805; Min Operating Temperature: -55°C; Max Operating Temperature: 155°C; Tolerance: 1%; Composition: Thick Film; Package Quantity: 1; Packaging: Tape and Reel; Features: Moisture Resistant; Number of Terminations: 2; Termination: SMD/SMT; Max Power Dissipation: 125mW; Voltage Rating (DC): 150V; Length: 0.079inch; Height: 0.024inch; Width: 0.049inch; Radiation Hardening: No; Lead Free: Lead Free; ComponentLink1URL: https://datasheet.ciiva.com/17057/rc0805-17057943.pdf?src-supplier=Future+Electronics; ComponentLink1Description: https://datasheet.ciiva.com/17057/rc0805-17057943.pdf?src-supplier=Future+Electronics; ComponentLink2URL: https://datasheet.ciiva.com/2457/pyu-r-int-thick-7-2457113.pdf?src-supplier=Digi-Key; ComponentLink2Description: https://datasheet.ciiva.com/2457/pyu-r-int-thick-7-2457113.pdf?src-supplier=Digi-Key; ComponentLink3URL: https://datasheet.ciiva.com/12562/rc0805-257173-12562041.pdf?src-supplier=Mouser; ComponentLink3Description: https://datasheet.ciiva.com/12562/rc0805-257173-12562041.pdf?src-supplier=Mouser; ComponentLink4URL: https://datasheet.ciiva.com/2457/pyu-r-int-thick-7-2457114.pdf?src-supplier=Digi-Key; ComponentLink4Description: https://datasheet.ciiva.com/2457/pyu-r-int-thick-7-2457114.pdf?src-supplier=Digi-Key; ComponentLink5URL: https://datasheet.ciiva.com/2457/pyu-r-int-thick-7-2457115.pdf?src-supplier=Digi-Key; ComponentLink5Description: https://datasheet.ciiva.com/2457/pyu-r-int-thick-7-2457115.pdf?src-supplier=Digi-Key; Supplier Part Number 1: 311-187KCRCT-ND
footprint R0805
pins: 1, 2

## R_200k_RC0805FR-07200KL
designator R?, comment 200k
YAGEO - RC0805FR-07200KL - RES, THICK FILM, 200K, 1%, 0.125W, 0805, REEL; Resistance: 200kR; Temperature Coefficient: 100ppm/°C; Power Rating: 125mW; Voltage Rating: 150V; Supplier 1: Farnell; Manufacturer: Yageo; Manufacturer Part Number: RC0805FR-07200KL; RoHS: Yes; Category: Chip SMD Resistors; Stock 1: 10000; Pricing 1: 5000=0,00830 (EUR); Case/Package: 0805; Number of Pins: 2; Contact Plating: Tin,Matte; Case Code (Imperial): 0805; Case Code (Metric): 2012; Min Operating Temperature: -55°C; Max Operating Temperature: 155°C; Tolerance: 1%; Composition: Thick Film; Packaging: Tape and Reel; Termination: SMD/SMT; Military Standard: Not; Working Voltage: 150V; Number of Terminations: 2; Voltage Rating (DC): 150V; Length: 2mm; Height: 0.5mm; Depth: 1.25mm; Radiation Hardening: No; REACH SVHC: No SVHC; Lead Free: Lead Free; ComponentLink1URL: https://datasheet.ciiva.com/11808/0900766b8106beab-11808861.pdf?src-supplier=RSComponents; ComponentLink1Description: https://datasheet.ciiva.com/11808/0900766b8106beab-11808861.pdf?src-supplier=RSComponents; ComponentLink2URL: https://datasheet.ciiva.com/15189/getdatasheetpartid-71710-15189925.pdf?src-supplier=Verical; ComponentLink2Description: https://datasheet.ciiva.com/15189/getdatasheetpartid-71710-15189925.pdf?src-supplier=Verical; ComponentLink3URL: https://datasheet.ciiva.com/46395/444164-46395126.pdf?src-supplier=Element14; ComponentLink3Description: https://datasheet.ciiva.com/46395/444164-46395126.pdf?src-supplier=Element14; ComponentLink4URL: https://datasheet.ciiva.com/12668/rc0805-12668200.pdf?src-supplier=Mouser; ComponentLink4Description: https://datasheet.ciiva.com/12668/rc0805-12668200.pdf?src-supplier=Mouser; Supplier Part Number 1: 2413771
footprint R0805 (Chip Resistor, 2-Leads, Body 2,00x1,25mm, IPC Medium Density)
pins: 1, 2

## R_200mR_0.5W_RL1632R-R200-F
designator R?, comment 200mR
Res Thin Film 1206 0.2 Ohm 1% 1/2W 0ppm/ to 100p|; Manufacturer: Susumu; Manufacturer Part Number: RL1632R-R200-F; Power Rating: 500mW; Temperature Coefficient: 100ppm/°C; Supplier 1: Farnell; RoHS: Yes; Category: Chip SMD Resistors; Stock 1: 1160; Pricing 1: 1=0,58600, 25=0,42200, 50=0,32000, 100=0,21800, 250=0,18400, 500=0,15100 (EUR); Case/Package: 1206; Number of Pins: 2; Case Code (Metric): 3216; Case Code (Imperial): 1206; Weight: 0.000571oz; Size Code: 1206; Min Operating Temperature: -55°C; Max Operating Temperature: 125°C; Tolerance: 1%; Package Quantity: 1; Resistance: 200mR; Packaging: Cut Tape; Resistor Type: Thin Film; Number of Terminations: 2; Termination: SMD/SMT; Max Power Dissipation: 500mW; Series: RL; Technology: THIN FILM; Resistance Tolerance: 1%; Length: 0.126inch; Width: 1.6mm; Height: 0.026inch; Lead Free: Lead Free; RoHS Compliant: Yes; ComponentLink1URL: https://datasheet.ciiva.com/2490/rl-data-sheet-2490340.pdf?src-supplier=Digi-Key; ComponentLink1Description: https://datasheet.ciiva.com/2490/rl-data-sheet-2490340.pdf?src-supplier=Digi-Key; ComponentLink2URL: https://datasheet.ciiva.com/2490/rl-data-sheet-2490341.pdf?src-supplier=Digi-Key; ComponentLink2Description: https://datasheet.ciiva.com/2490/rl-data-sheet-2490341.pdf?src-supplier=Digi-Key; ComponentLink3URL: https://datasheet.ciiva.com/7984/87305-7984277.pdf?src-supplier=Element14; ComponentLink3Description: https://datasheet.ciiva.com/7984/87305-7984277.pdf?src-supplier=Element14; ComponentLink4URL: https://datasheet.ciiva.com/2490/rl-data-sheet-2490342.pdf?src-supplier=Digi-Key; ComponentLink4Description: https://datasheet.ciiva.com/2490/rl-data-sheet-2490342.pdf?src-supplier=Digi-Key; ComponentLink5URL: https://datasheet.ciiva.com/12913/e-15-16-12913593.pdf?src-supplier=Mouser; ComponentLink5Description: https://datasheet.ciiva.com/12913/e-15-16-12913593.pdf?src-supplier=Mouser; Supplier Part Number 1: 9377298
footprint R1206
pins: 1, 2

## R_200R_AC0805FR-07200RL
designator R?, comment 200R
Res Thick Film 0805 200 Ohm 1% 1/8W 100ppm/C Molded SMD SMD Paper T/R; Manufacturer: Yageo; Manufacturer Part Number: AC0805FR-07200RL; Power Rating: 125mW; Voltage Rating: 150V; Temperature Coefficient: 100ppm/°C; Supplier 1: Digi-Key; RoHS: Yes; Category: Chip SMD Resistors; Stock 1: 9925; Pricing 1: 1=0,10000, 10=0,04800, 100=0,01970, 1000=0,00885, 2500=0,00768 (USD); Case/Package: 0805; Weight: 0.000194oz; Case Code (Imperial): 0805; Case Code (Metric): 2012; Contact Plating: Tin,Matte; Min Operating Temperature: -55°C; Max Operating Temperature: 155°C; Resistance: 200R; Tolerance: 1%; Packaging: Tape and Reel; Termination: SMD/SMT; Composition: Thick Film; Number of Terminations: 2; Max Power Dissipation: 125mW; Features: Moisture Resistant,Automotive AEC-Q200; Length: 0.079inch; Height: 0.024inch; Width: 1.25mm; Radiation Hardening: No; ComponentLink1URL: http://www.mouser.com/ds/2/447/yageodocoutput-1111992.pdf?src-supplier=Mouser; ComponentLink1Description: http://www.mouser.com/ds/2/447/yageodocoutput-1111992.pdf?src-supplier=Mouser; ComponentLink2URL: http://www.yageo.com/documents/recent/PYu-AC_51_RoHS_L_2_revised.pdf?src-supplier=Avnet+Europe; ComponentLink2Description: http://www.yageo.com/documents/recent/PYu-AC_51_RoHS_L_2_revised.pdf?src-supplier=Avnet+Europe; ComponentLink3URL: http://www.yageo.com/NewPortal/yageodocoutput?fileName=/pdf/R-Chip/PYu-AC_51_RoHS_L_6.pdf&src-supplier=Digi-Key; ComponentLink3Description: http://www.yageo.com/NewPortal/yageodocoutput?fileName=/pdf/R-Chip/PYu-AC_51_RoHS_L_6.pdf&src-supplier=Digi-Key; Supplier Part Number 1: YAG3707CT-ND
footprint R0805 (Chip Resistor, 2-Leads, Body 2,00x1,25mm, IPC Medium Density)
pins: 1, 2

## R_255R_RC0805FR-07255RL
designator R?, comment 255R
Res Thick Film 0805 255 Ohm 1% 0.125W(1/8W) ±100ppm/C Epoxy SMD T/R; Manufacturer: Yageo; Manufacturer Part Number: RC0805FR-07255RL; Power Rating: 125mW; Voltage Rating: 150V; Temperature Coefficient: 100ppm/°C; RoHS: Yes; Category: Chip SMD Resistors; Stock 1: 5010; Pricing 1: 1=0,10000, 10=0,04000, 100=0,01630, 1000=0,00731, 2500=0,00635 (USD); Case/Package: 0805; Case Code (Metric): 2012; Case Code (Imperial): 0805; Contact Plating: Tin,Matte; Min Operating Temperature: -55°C; Max Operating Temperature: 155°C; Package Quantity: 1; Resistance: 255R; Tolerance: 1%; Packaging: Tape and Reel; Composition: Thick Film; Termination: SMD/SMT; Voltage Rating (DC): 150V; Number of Terminations: 2; Military Standard: Not; Max Power Dissipation: 125mW; Features: Moisture Resistant; Length: 2mm; Height: 0.024inch; Width: 0.049inch; Depth: 1.25mm; Radiation Hardening: No; Lead Free: Lead Free; ComponentLink1URL: https://datasheet.ciiva.com/2457/pyu-r-int-thick-7-2457200.pdf?src-supplier=Digi-Key; ComponentLink1Description: https://datasheet.ciiva.com/2457/pyu-r-int-thick-7-2457200.pdf?src-supplier=Digi-Key; ComponentLink2URL: https://datasheet.ciiva.com/2457/pyu-r-int-thick-7-2457201.pdf?src-supplier=Digi-Key; ComponentLink2Description: https://datasheet.ciiva.com/2457/pyu-r-int-thick-7-2457201.pdf?src-supplier=Digi-Key; ComponentLink3URL: https://datasheet.ciiva.com/2457/pyu-r-int-thick-7-2457202.pdf?src-supplier=Digi-Key; ComponentLink3Description: https://datasheet.ciiva.com/2457/pyu-r-int-thick-7-2457202.pdf?src-supplier=Digi-Key; Supplier 1: Digi-Key; Supplier Part Number 1: 541-255CCT-ND
footprint R0805 (Chip Resistor, 2-Leads, Body 2,00x1,25mm, IPC Medium Density)
pins: 1, 2

## R_360R_RT0805BRD07360RL
designator R?, comment 360R
Res Thin Film 0805 360 Ohm 0.1% 1/8W ±25ppm/°C Molded SMD Paper T/R; Manufacturer: Yageo; Manufacturer Part Number: RT0805BRD07360RL; Power Rating: 125mW; Voltage Rating: 150V; Supplier 1: Mouser; RoHS: Yes; Category: Chip SMD Resistors; Stock 1: 2138; Case/Package: 0805; Case Code (Imperial): 0805; Case Code (Metric): 2012; Weight: 0.000194oz; Min Operating Temperature: -55°C; Max Operating Temperature: 125°C; Resistance: 360R; Packaging: Tape and Reel; Tolerance: 0.1%; Resistor Type: Thin Film; Termination: SMD/SMT; Number of Terminations: 2; Temperature Coefficient: 25ppm/°C; Max Power Dissipation: 125mW; Voltage Rating (DC): 150V; Features: Moisture Resistant; Series: RT; Construction: Rectangular; Length: 2mm; Width: 1.2mm; Height: 0.024inch; Depth: 1.25mm; Military Standard: Not; Lead Free: Lead Free; RoHS Compliant: Yes; ComponentLink1URL: https://datasheet.ciiva.com/12810/pyu-rt-1-to-0-05-rohs-l-4-12810054.pdf?src-supplier=Mouser; ComponentLink1Description: https://datasheet.ciiva.com/12810/pyu-rt-1-to-0-05-rohs-l-4-12810054.pdf?src-supplier=Mouser; Supplier Part Number 1: 603-RT0805BRD07360RL
footprint R0805
pins: 1, 2

## R_470R_RC0805FR-07470RL
designator R?, comment 470R
Res Thick Film 0805 470 Ohm 1% 1/8W +/-100ppm/ßC Molded SMD Paper T/R; Manufacturer Part Number: RC0805FR-07470RL; Manufacturer: Yageo; Temperature Coefficient: 100ppm/°C; Voltage Rating (DC): 150V; Power Rating: 125mW; PCBChecked: initials after Checked; RoHS: Yes; Category: Chip SMD Resistors; Case/Package: 0805; Number of Pins: 2; Case Code (Metric): 2012; Case Code (Imperial): 0805; Min Operating Temperature: -55°C; Max Operating Temperature: 155°C; Composition: Thick Film; Resistance: 470R; Tolerance: 1%; Packaging: Tape and Reel; Features: Moisture Resistant; Number of Terminations: 2; Termination: SMD/SMT; Military Standard: Not; Package Quantity: 1; Voltage Rating: 150V; Max Power Dissipation: 125mW; Length: 2mm; Height: 0.5mm; Width: 1.25mm; Depth: 1.25mm; Lead Pitch: 0.4mm; Lead Free: Lead Free; REACH SVHC: Unknown; ComponentLink1URL: https://datasheet.ciiva.com/2457/pyu-r-int-thick-7-2457056.pdf?src-supplier=Digi-Key; ComponentLink1Description: https://datasheet.ciiva.com/2457/pyu-r-int-thick-7-2457056.pdf?src-supplier=Digi-Key; ComponentLink2URL: https://datasheet.ciiva.com/2457/pyu-r-int-thick-7-2457057.pdf?src-supplier=Digi-Key; ComponentLink2Description: https://datasheet.ciiva.com/2457/pyu-r-int-thick-7-2457057.pdf?src-supplier=Digi-Key; ComponentLink3URL: https://datasheet.ciiva.com/2457/pyu-r-int-thick-7-2457058.pdf?src-supplier=Digi-Key; ComponentLink3Description: https://datasheet.ciiva.com/2457/pyu-r-int-thick-7-2457058.pdf?src-supplier=Digi-Key; ComponentLink4URL: https://datasheet.ciiva.com/7941/444164-7941797.pdf?src-supplier=Element14; ComponentLink4Description: https://datasheet.ciiva.com/7941/444164-7941797.pdf?src-supplier=Element14; ComponentLink5URL: https://datasheet.ciiva.com/7941/444164-7941798.pdf?src-supplier=Element14; ComponentLink5Description: https://datasheet.ciiva.com/7941/444164-7941798.pdf?src-supplier=Element14; ComponentLink6URL: https://datasheet.ciiva.com/46447/444164-46447580.pdf?src-supplier=Element14; ComponentLink6Description: https://datasheet.ciiva.com/46447/444164-46447580.pdf?src-supplier=Element14; ComponentLink7URL: https://datasheet.ciiva.com/16745/rc0805-16745229.pdf?src-supplier=Future+Electronics; ComponentLink7Description: https://datasheet.ciiva.com/16745/rc0805-16745229.pdf?src-supplier=Future+Electronics; Stock 1: 865297; IPC7352C: done; SCHChecked: Initials after checked; Supplier 1: Digi-Key; Supplier Part Number 1: A129745CT-ND
footprint R0805 (Chip Resistor, 2-Leads, Body 2,00x1,25mm, IPC Medium Density)
pins: 1, 2

## R_562k_CRCW0805562KFKEA
designator R?, comment 562k
RES, THICK FILM, 562K, 1%, 0.125W, 0805, REEL; Product Range:AEC-Q200 CRCW Series; Resistance:562kohm; Power Rating:125mW; Resistance Tolerance:  1%; Voltage Rating:150V; Resistor Case Style:0805 ^2012 Metric]; Packaging:Tape & Reel; Manufacturer: Vishay; Manufacturer Part Number: CRCW0805562KFKEA; Resistance: 562kR; Temperature Coefficient: 100ppm/°C; Power Rating: 125mW; Voltage Rating: 150V; Supplier 1: Farnell; RoHS: Yes; Category: Chip SMD Resistors; Stock 1: 10000; Pricing 1: 5000=0,00370 (EUR); Case/Package: 0805; Number of Pins: 2; Case Code (Imperial): 0805; Case Code (Metric): 2012; Weight: 0.000194oz; Contact Plating: Tin; Min Operating Temperature: -55°C; Max Operating Temperature: 155°C; Tolerance: 1%; Packaging: Tape and Reel; Resistor Type: Thick Film; Package Quantity: 10; Number of Terminations: 2; Max Power Dissipation: 125mW; Features: Automotive AEC-Q200; Working Voltage: 150V; Length: 2mm; Width: 1.25mm; Height: 0.02inch; Depth: 1.25mm; Radiation Hardening: No; REACH SVHC: Unknown; Military Standard: Not; ComponentLink1URL: https://datasheet.ciiva.com/22706/1697337-22706277.pdf?src-supplier=Element14; ComponentLink1Description: https://datasheet.ciiva.com/22706/1697337-22706277.pdf?src-supplier=Element14; ComponentLink2URL: https://datasheet.ciiva.com/2525/dcrcwe3-2525767.pdf?src-supplier=Digi-Key; ComponentLink2Description: https://datasheet.ciiva.com/2525/dcrcwe3-2525767.pdf?src-supplier=Digi-Key; ComponentLink3URL: https://datasheet.ciiva.com/2525/dcrcwe3-2525768.pdf?src-supplier=Digi-Key; ComponentLink3Description: https://datasheet.ciiva.com/2525/dcrcwe3-2525768.pdf?src-supplier=Digi-Key; ComponentLink4URL: https://datasheet.ciiva.com/2525/dcrcwe3-2525769.pdf?src-supplier=Digi-Key; ComponentLink4Description: https://datasheet.ciiva.com/2525/dcrcwe3-2525769.pdf?src-supplier=Digi-Key; ComponentLink5URL: https://datasheet.ciiva.com/8928/dcrcwe3-8928345.pdf?src-supplier=Avnet; ComponentLink5Description: https://datasheet.ciiva.com/8928/dcrcwe3-8928345.pdf?src-supplier=Avnet; ComponentLink6URL: https://datasheet.ciiva.com/16204/dcrcwe3-16204271.pdf?src-supplier=Future+Electronics; ComponentLink6Description: https://datasheet.ciiva.com/16204/dcrcwe3-16204271.pdf?src-supplier=Future+Electronics; ComponentLink7URL: https://datasheet.ciiva.com/17160/dcrcwe3-17160041.pdf?src-supplier=Avnet+Europe; ComponentLink7Description: https://datasheet.ciiva.com/17160/dcrcwe3-17160041.pdf?src-supplier=Avnet+Europe; ComponentLink8URL: https://datasheet.ciiva.com/22674/1847332-22674793.pdf?src-supplier=Element14; ComponentLink8Description: https://datasheet.ciiva.com/22674/1847332-22674793.pdf?src-supplier=Element14; ComponentLink9URL: https://datasheet.ciiva.com/7670/1697337-7670907.pdf?src-supplier=Element14; ComponentLink9Description: https://datasheet.ciiva.com/7670/1697337-7670907.pdf?src-supplier=Element14; ComponentLink10URL: https://datasheet.ciiva.com/7670/1697337-7670908.pdf?src-supplier=Element14; ComponentLink10Description: https://datasheet.ciiva.com/7670/1697337-7670908.pdf?src-supplier=Element14; Supplier Part Number 1: 2123477
footprint R0805
pins: 1, 2

## R_750k_RC0805FR-07750KL
designator R?, comment 750k
Res Thick Film 0805 750K Ohm 1% 0.125W(1/8W) ±100ppm/C Molded SMD Paper T/R; Manufacturer: Yageo; Manufacturer Part Number: RC0805FR-07750KL; Voltage Rating (DC): 150V; Temperature Coefficient: 100ppm/°C; Resistance: 750kR; Power Rating: 125mW; Supplier 1: Mouser; RoHS: Yes; Category: Chip SMD Resistors; Stock 1: 101970; Pricing 1: 1=0,13000, 10=0,03100, 100=0,01100, 1000=0,00800, 5000=0,00500, 10000=0,00500 (USD); Mount: Surface Mount; Case/Package: 0805; Case Code (Metric): 2012; Case Code (Imperial): 0805; Min Operating Temperature: -55°C; Max Operating Temperature: 155°C; Termination: SMD/SMT; Military Standard: Not; Composition: Thick Film; Tolerance: 1%; Voltage Rating: 150V; Packaging: Tape and Reel; Length: 2mm; Height: 0.5mm; Depth: 1.25mm; Lead Free: Lead Free; ComponentLink1URL: https://datasheet.ciiva.com/11808/0900766b8106beab-11808367.pdf?src-supplier=RSComponents; ComponentLink1Description: https://datasheet.ciiva.com/11808/0900766b8106beab-11808367.pdf?src-supplier=RSComponents; ComponentLink2URL: https://datasheet.ciiva.com/5562/rc0805-5562541.pdf?src-supplier=Mouser; ComponentLink2Description: https://datasheet.ciiva.com/5562/rc0805-5562541.pdf?src-supplier=Mouser; ComponentLink3URL: https://datasheet.ciiva.com/17423/rc0805-17423051.pdf?src-supplier=Future+Electronics; ComponentLink3Description: https://datasheet.ciiva.com/17423/rc0805-17423051.pdf?src-supplier=Future+Electronics; Supplier Part Number 1: 603-RC0805FR-07750KL
footprint R0805 (Chip Resistor, 2-Leads, Body 2,00x1,25mm, IPC Medium Density)
pins: 1, 2

## R_976k_RN73H2ATTD9763F25
designator R?, comment 976k
Res 976K Ohm 1% 1/8W 0805; Manufacturer: KOA Speer; Manufacturer Part Number: RN73H2ATTD9763F25; Pricing 1: 5000=0,06662 (USD); Supplier 1: Digi-Key; Supplier Part Number 1: 311-976KCRCT-ND
footprint R0805
pins: 1, 2
text: 0805

## R_NTC_22k_B57471V2223J062
designator R?, comment 22k (25°)
Thermistor NTC 22K Ohm 5% 2-Pin 0805 Surface Mount Solder Pad 4455K Blister T/R; Manufacturer: TDK EPCOS; Manufacturer Part Number: B57471V2223J062; Resistance: 22kR; Power Rating: 210mW; Supplier 1: Digi-Key; RoHS: Yes; Category: Thermistors; Stock 1: 4625; Pricing 1: 1=0,57000, 5=0,53800, 10=0,46800, 25=0,41120, 50=0,34160, 100=0,29100, 500=0,25300, 1000=0,22138 (USD); Mount: Surface Mount; Case/Package: 0805; Number of Pins: 2; Weight: 0.000459oz; Contact Plating: Tin; Min Operating Temperature: -55°C; Max Operating Temperature: 125°C; Termination: SMD/SMT; Tolerance: 5%; Packaging: Tape and Reel; Package Quantity: 3000; Length: 2mm; Height: 1.3mm; Width: 1.25mm; Depth: 1.25mm; REACH SVHC: No SVHC; ComponentLink1URL: https://datasheet.ciiva.com/1302/91918-1302291.pdf?src-supplier=Farnell; ComponentLink1Description: https://datasheet.ciiva.com/1302/91918-1302291.pdf?src-supplier=Farnell; Supplier Part Number 1: 495-76313-1-ND
footprint R_NTC-PTC-0805 (Chip Resistor, 2-Leads, Body 2,00x1,25mm, IPC Medium Density)
pins: 1, 2
text: NTC